# Altium footprint library 2 Pin Header.PcbLib: 1 footprints
Each footprint in its own frame and in the unit in brackets; x right, y up, seen from the top. Pads: shape width x height; smd on the part's side, far side on the other; paste and mask are expansions set on the pad; w line width, h text height; cw(c..) or ccw(c..) is an arc to the next point about the centre after c.
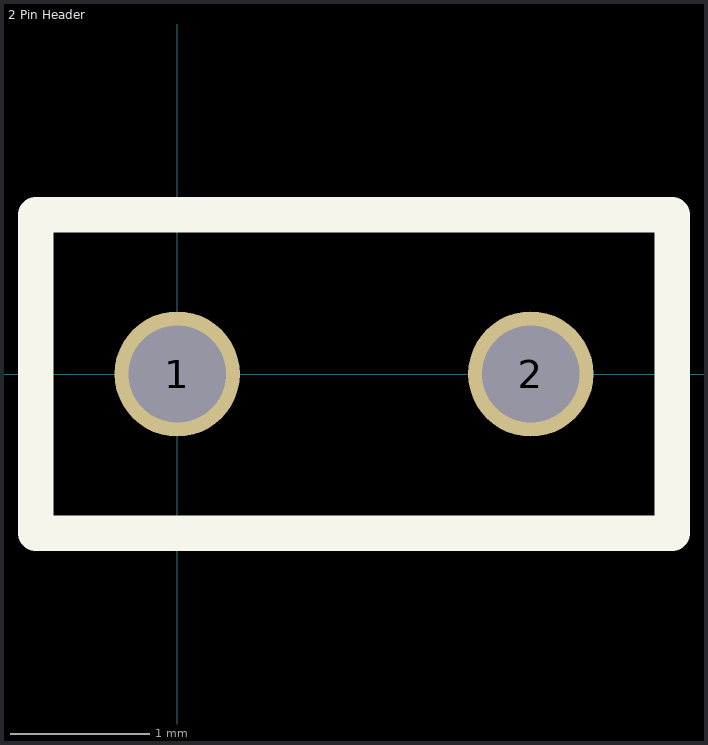
[diagram p0: the footprint, top view; thin cyan lines are the x and y axes]

## 2 Pin Header [mm]
pads (2):
  round 0.9 hole 0.7: 1(0,0) 2(2.54,0)
Top Overlay:
  lines w0.254: -1.016,-1.143 -1.016,1.143 0.093,1.143 2.447,1.143 3.556,1.143 3.556,-1.143 2.447,-1.143 0.093,-1.143 -1.016,-1.143